# EAGLE library part EPG.1B.310.HLN (library lplemo)
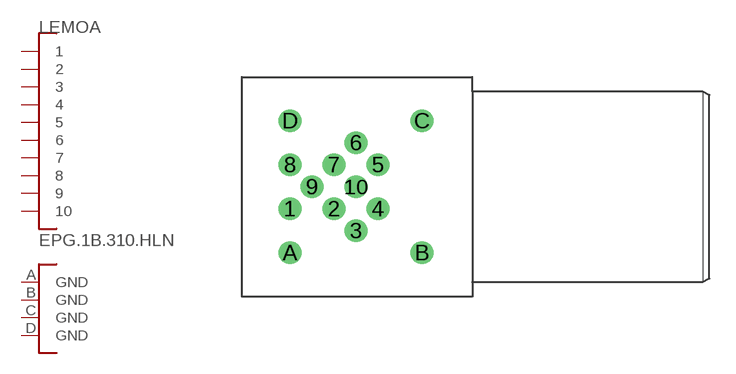
[diagram p17: symbol with the pads of P19-EPG-EXG-1B.310; footprint P19-EPG-EXG-1B.310]

Designator prefix LEMO; gates A=C10 B=GND4

## EPG.1B.310.HLN  [P19-EPG-EXG-1B.310]
1  A:1
2  A:2
3  A:3
4  A:4
5  A:5
6  A:6
7  A:7
8  A:8
9  A:9
10  A:10
A  B:GND  pwr
B  B:GND  pwr
C  B:GND  pwr
D  B:GND  pwr

## Footprint P19-EPG-EXG-1B.310 (pad centres in mm)
drill 0.8 round: 1 -7.62,-1.27; 2 -5.08,-1.27; 3 -3.81,-2.54; 4 -2.54,-1.27; 5 -2.54,1.27; 6 -3.81,2.54; 7 -5.08,1.27; 8 -7.62,1.27; 9 -6.35,0; 10 -3.81,0; A -7.62,-3.81; B 0,-3.81; C 0,3.81; D -7.62,3.81